# Altium schematic symbol library Cap 4.7uF_400V.Schlib: 1 symbol
Pins are listed as number, name and electrical type; pins without a type are passive.

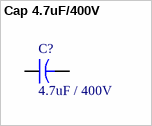
[diagram p0: symbol Cap 4.7uF/400V]

## Cap 4.7uF/400V
designator C?, comment 4.7uF / 400V
Aluminum Electrolytic Capacitors - Leaded 400V 4.7uF TOL 20% Radial
pins: 1, 2